# Altium footprint library Footprint_Library.PcbLib: 29 footprints (part 2 of 2)
Each footprint in its own frame and in the unit in brackets; x right, y up, seen from the top. Pads: shape width x height; smd on the part's side, far side on the other; paste and mask are expansions set on the pad; w line width, h text height; cw(c..) or ccw(c..) is an arc to the next point about the centre after c.
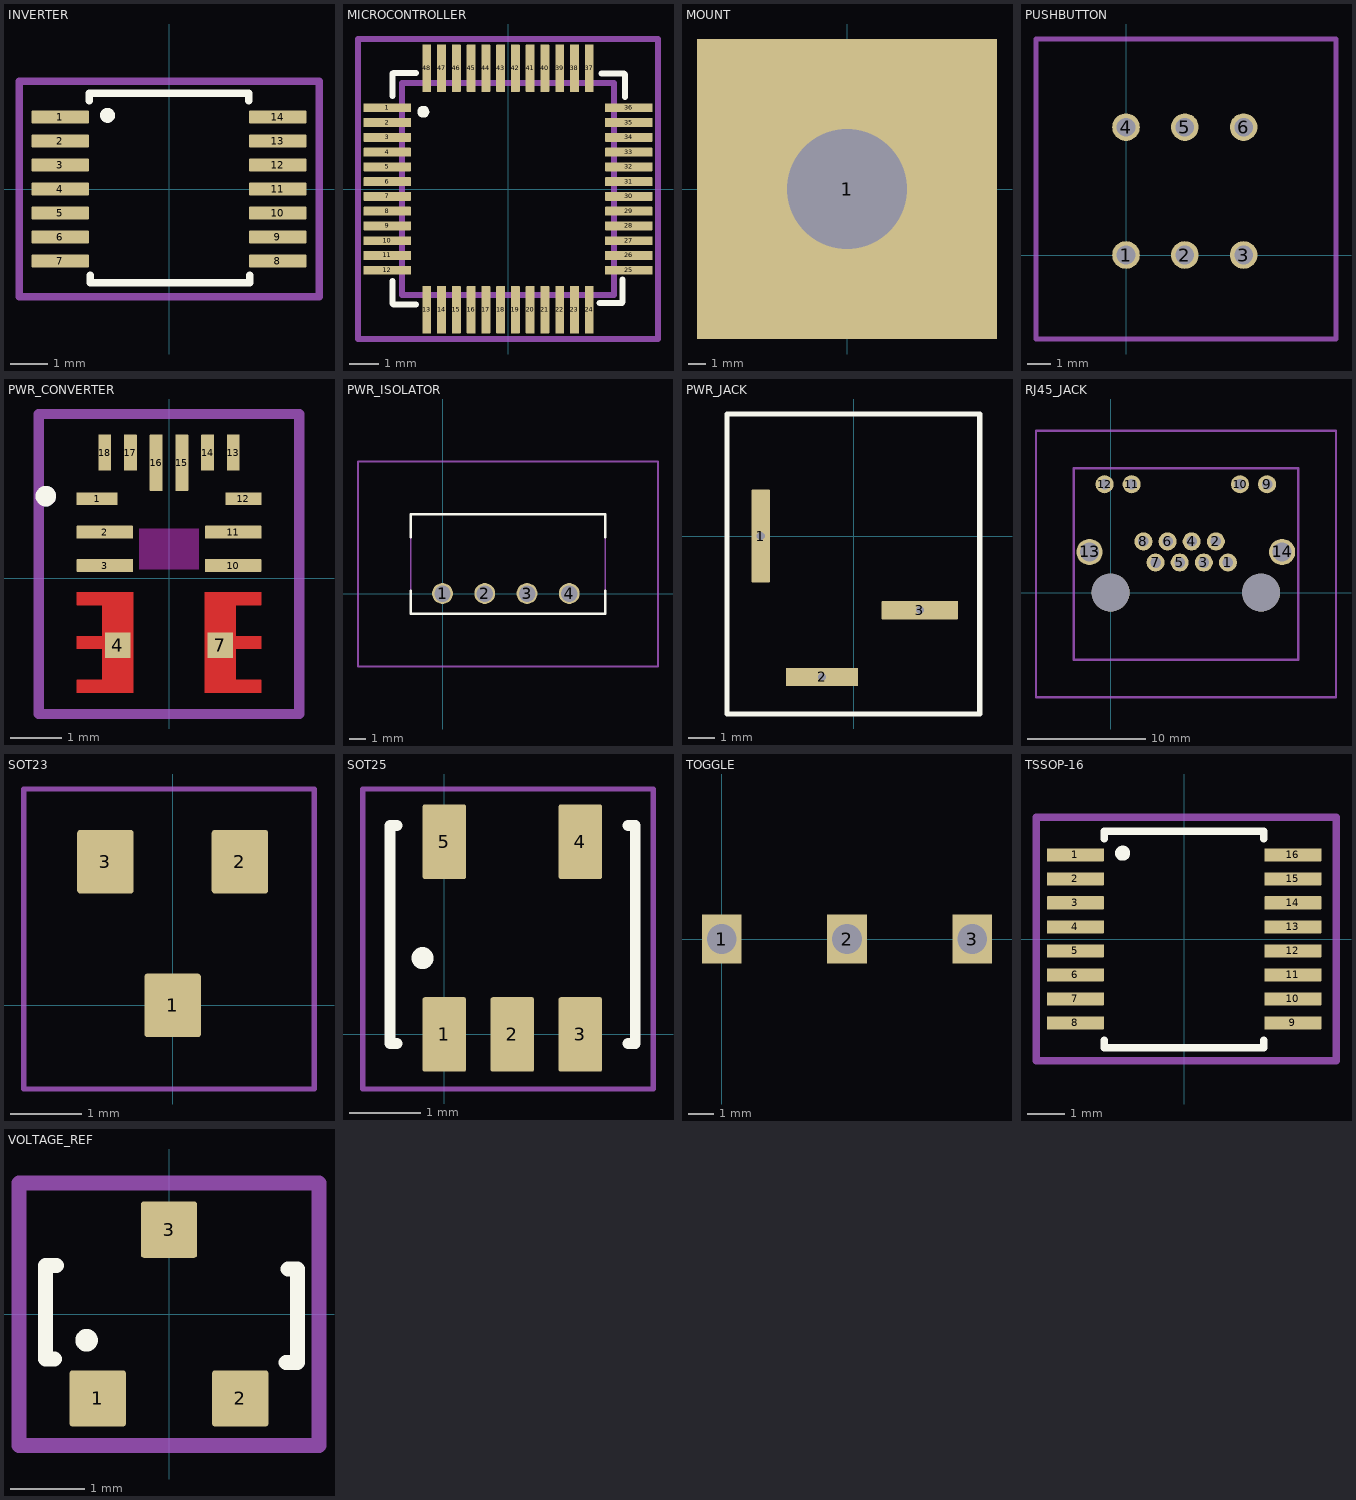
[diagram p1: the footprints below, top view; thin cyan lines are the x and y axes]

## INVERTER [mil] "6-in-1 Inverter TSSOP-14 Footprint"
height 4.7
pads (14):
  rrect10% 61x14 smd mask+3: 1(-116,76.8) 2(-116,51.2) 3(-116,25.6) 4(-116,0) 5(-116,-25.6) 6(-116,-51.2) 7(-116,-76.8) 8(116,-76.8) 9(116,-51.2) 10(116,-25.6) 11(116,0) 12(116,25.6) 13(116,51.2) 14(116,76.8)
Top Overlay:
  circle w8: c-65.62,78.56 r4
  lines w8: -85,94 -85,101 ; -85,102 85,102 ; -84,-100 86,-100 ; -84,-99 -84,-92 ; 85,94 85,101 ; 86,-99 86,-92
Mechanical 1:
  lines w8: -160,-115 160,-115 160,115 -160,115 -160,-115
3D body "inverter.step": height 39.37, standoff 0, extent -125.98,-98.43 125.98,98.43

## MICROCONTROLLER [mil] "LQFP-48 Microcontroller Footprint"
height 63
pads (48):
  rrect10% 63x11.8 smd mask+2: 1(-161,108.3) 2(-161,88.6) 3(-161,68.9) 4(-161,49.2) 5(-161,29.5) 6(-161,9.8) 7(-161,-9.8) 8(-161,-29.5) 9(-161,-49.2) 10(-161,-68.9) 11(-161,-88.6) 12(-161,-108.3) 25(161,-108.3) 26(161,-88.6) 27(161,-68.9) 28(161,-49.2) 29(161,-29.5) 30(161,-9.8) 31(161,9.8) 32(161,29.5) 33(161,49.2) 34(161,68.9) 35(161,88.6) 36(161,108.3)
  rrect10% 11.8x63 smd mask+2: 13(-108.3,-161) 14(-88.6,-161) 15(-68.9,-161) 16(-49.2,-161) 17(-29.5,-161) 18(-9.8,-161) 19(9.8,-161) 20(29.5,-161) 21(49.2,-161) 22(68.9,-161) 23(88.6,-161) 24(108.3,-161) 37(108.3,161) 38(88.6,161) 39(68.9,161) 40(49.2,161) 41(29.5,161) 42(9.8,161) 43(-9.8,161) 44(-29.5,161) 45(-49.2,161) 46(-68.9,161) 47(-88.6,161) 48(-108.3,161)
Top Overlay:
  circle w8: c-113,103 r4
  lines w8: -154,-153 -154,-123 ; -154,124 -154,154 ; -153,-154 -123,-154 ; -153,155 -123,155 ; 122,-152 152,-152 ; 125,154 155,154 ; 153,-151 153,-121 ; 156,123 156,153
Mechanical 1:
  lines w8: -200,-200 200,-200 200,200 -200,200 -200,-200 ; -141.5,-141.5 141.5,-141.5 141.5,141.5 -141.5,141.5 -141.5,-141.5
3D body "microcontroller.step": height 59.06, standoff 0, extent -177.17,-177.17 177.17,177.17

## MOUNT [mil] "Screw Mount Footprint"
height 125
pads (1):
  rect 687.5x687.5 hole 275 paste-99999: 1(0,0)
3D body "nut.STEP": height -0.62, standoff -219.38, extent -250.9,-218.75 250.9,218.75
3D body "screw.STEP": height 174.38, standoff -500, extent -249.16,-218.75 249.16,218.75

## PUSHBUTTON [mil] "Pushbutton Switch Footprint"
height 224
pads (6):
  round 46 hole 31: 1(0,0) 2(98,0) 3(196,0) 4(0,213) 5(98,213) 6(196,213)
Mechanical 2:
  lines w8: -150,-140 350,-140 350,360 -150,360 -150,-140
3D body "pushbutton.STEP": height 559.5, standoff -137.5, extent -67,-59.5 268,275.5

## PWR_CONVERTER [mm] "Power Converter 12 - 5/3.3 V QFN-20 3 x 5 mm Footprint"
height 1.6
pads (14):
  rrect10% 0.8x0.25 smd: 1(-1.4,1.55)
  rrect10% 1.1x0.25 smd: 2(-1.25,0.9) 3(-1.25,0.25) 10(1.25,0.25) 11(1.25,0.9)
  rect 0.5x0.5 smd paste-1 mask+0: 4(-1,-1.3) 7(1,-1.3)
  rrect10% 0.7x0.25 smd: 12(1.45,1.55)
  rrect10% 0.25x0.7 smd: 13(1.25,2.45) 14(0.75,2.45) 17(-0.75,2.45) 18(-1.25,2.45)
  rrect10% 0.25x1.1 smd: 15(0.25,2.25) 16(-0.25,2.25)
Top Layer:
  region: 1.8,-0.525 1.3,-0.525 1.3,-1.125 1.8,-1.125 1.8,-1.375 1.3,-1.375 1.3,-1.975 1.8,-1.975 1.8,-2.225 0.7,-2.225 0.7,-0.275 1.8,-0.275
  region: -0.7,-2.225 -1.8,-2.225 -1.8,-1.975 -1.3,-1.975 -1.3,-1.375 -1.8,-1.375 -1.8,-1.125 -1.3,-1.125 -1.3,-0.525 -1.8,-0.525 -1.8,-0.275 -0.7,-0.275
Top Overlay:
  circle w0.2: c-2.4,1.6 r0.1
Top Paste:
  region: 1.8,-0.525 1.3,-0.525 1.3,-1.125 1.8,-1.125 1.8,-1.375 1.3,-1.375 1.3,-1.975 1.8,-1.975 1.8,-2.225 0.7,-2.225 0.7,-0.275 1.8,-0.275
  region: -0.7,-2.225 -1.8,-2.225 -1.8,-1.975 -1.3,-1.975 -1.3,-1.375 -1.8,-1.375 -1.8,-1.125 -1.3,-1.125 -1.3,-0.525 -1.8,-0.525 -1.8,-0.275 -0.7,-0.275
Top Solder:
  region: 1.9,-0.2 1.9,-0.625 1.4,-0.625 1.4,-1.025 1.9,-1.025 1.9,-1.475 1.4,-1.475 1.4,-1.875 1.9,-1.875 1.9,-2.325 0.6,-2.325 0.6,-0.175 1.9,-0.175
  region: -0.6,-2.325 -1.9,-2.325 -1.9,-1.875 -1.4,-1.875 -1.4,-1.475 -1.9,-1.475 -1.9,-1.025 -1.4,-1.025 -1.4,-0.625 -1.9,-0.625 -1.9,-0.2 -1.9,-0.175 -0.6,-0.175
Keep-Out Layer:
  region: 0.575,0.18 -0.575,0.18 -0.575,0.97 0.575,0.97
  region: 0.575,0.18 -0.575,0.18 -0.575,0.97 0.575,0.97
Mechanical 1:
  lines w0.203: -2.54,-2.642 2.54,-2.642 2.54,3.2 -2.54,3.2 -2.54,-2.642
Mechanical 13:
  circle w0.2: c-2.4,1.6 r0.1
3D body "pwr_converter.STEP": height 1.6, standoff -0.01, extent -1.501,-2.5 1.501,2.501

## PWR_ISOLATOR [mil] "Power Isolator Footprint"
height 400
pads (4):
  round 49.4 hole 39: 1(0,0) 2(100,0) 3(200,0) 4(300,0)
Top Overlay:
  lines w6: -75,7 -75,-48 385,-48 385,7 ; -75,133 -75,188 385,188 385,133
Mechanical 1:
  lines w3: -75,-48 385,-48 385,188 -75,188 -75,-48
Mechanical 2:
  lines w5: -200,-173 510,-173 510,313 -200,313 -200,-173
3D body "pwr_isolator.step": height 391.11, standoff -128.58, extent -75,-48.11 384.84,188.11

## PWR_JACK [mil] "Barrel Jack Footprint"
height 450
pads (3):
  rrect10% 27x138 hole 12 square: 1(-138,0)
  rrect10% 107x27 hole 12 square: 2(-47,-209)
  rrect10% 114x27 hole 12 square: 3(98,-110)
Top Overlay:
  lines w8: -188,-264 187,-264 187,181 -188,181 -188,-264
3D body "barrel_jack.STEP": height 551.5, standoff -141.5, extent -179,-253 175,168

## RJ45_JACK [mil] "RJ45 Jack Footprint"
height 520
pads (16):
  round 60 hole 35: 1(390,100) 2(349.75,170) 3(309.75,100) 4(269.25,170) 5(229.5,100) 6(189.25,170) 7(149.25,100) 8(109,170) 9(520,360) 10(430,360) 11(70,360) 12(-20,360)
  round 87 hole 63: 13(-70,135) 14(570,135)
  round 126 hole 126 unplated: ""(0,0) ""(500,0)
Mechanical 1:
  lines w8: -123,-223 624,-223 624,413 -123,413 -123,-223
Mechanical 2:
  lines w8: -248,-348 749,-348 749,538 -248,538 -248,-348
3D body "rj45.STEP": height 522.15, standoff -144.38, extent -76,-222.31 585.42,414.31

## SOT23 [mil] "SOT23 Footprint"
height 57
pads (3):
  rrect10% 31x35 smd: 1(0,0) 2(37,79) 3(-37,79)
Mechanical 1:
  lines w3: -82,-46 78,-46 78,119 -82,119 -82,-46
3D body "nfet.step": height 47.24, standoff 0, extent -59.06,-9.21 59.06,89.21

## SOT25 [mil] "SOT25 Footprint"
height 57
pads (5):
  rrect10% 24x41 smd: 1(0,0) 2(37.4,0) 3(74.8,0) 4(74.8,106) 5(0,106)
Top Overlay:
  circle w10: c-12,42 r1
  lines w6: -26,-5 -30,-5 -30,115 -26,115 ; 101,-5 105,-5 105,115 101,115
Mechanical 1:
  lines w3: -45,-30 115,-30 115,135 -45,135 -45,-30
3D body "comparator.STEP": height 54.81, standoff -0.31, extent -21.06,-2.12 97.06,108.12

## TOGGLE [mil] "Toggle Switch Footprint"
height 1100
pads (3):
  rect 60x75 hole 45 square: 1(0,0) 2(190,0) 3(380,0)
3D body "toggle_switch.STEP": height 1159.55, standoff -200.11, extent -59,-134 441,136.08

## TSSOP-16 [mil] "TSSOP-16 Footprint"
height 4.7
pads (16):
  rrect10% 61x14 smd mask+3: 1(-116,89.8) 2(-116,64.2) 3(-116,38.6) 4(-116,13) 5(-116,-12.6) 6(-116,-38.2) 7(-116,-63.8) 8(-116,-89.4) 9(116,-89.4) 10(116,-63.8) 11(116,-38.2) 12(116,-12.6) 13(116,13) 14(116,38.6) 15(116,64.2) 16(116,89.8)
Top Overlay:
  circle w8: c-65.62,91.56 r4
  lines w8: -85,-116 85,-116 ; -85,-115 -85,-108 ; -85,107 -85,114 ; -85,115 85,115 ; 85,-115 85,-108 ; 85,107 85,114
Mechanical 1:
  lines w8: -158,-130 162,-130 162,130 -158,130 -158,-130
3D body "level_shifter.step": height 43.31, standoff 0, extent -125.98,-98.43 125.98,98.43

## VOLTAGE_REF [mil] "Voltage Reference Footprint SOT23-3"
height 40
pads (3):
  rrect10% 30x30 smd: 1(-38,-45) 2(38,-45) 3(0,45)
Top Overlay:
  circle w10: c-44,-14 r1
  lines w8: -66,26 -66,-24 -61,-24 ; -64,26 -60,26 ; 62.44,-25.95 66.44,-25.95 ; 63.44,24.05 68.44,24.05 68.44,-25.95
Mechanical 1:
  lines w8: -80,-70 80,-70 80,70 -80,70 -80,-70
3D body "voltage_ref.step": height 47.24, standoff 0, extent -59.06,-49.21 59.06,49.21